# EAGLE library part XF2M-2015-1A (library OMRON_ELECTRONIC_COMPONENTS_By_element14_Batch_1)
FFC/FPC CONNECTOR, RECEPTACLE 20POS 1ROW
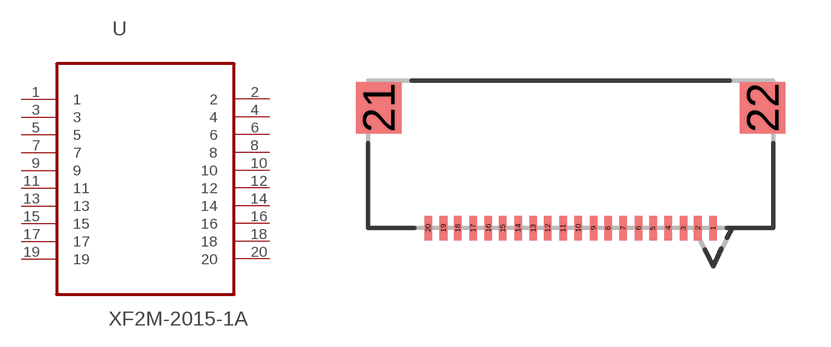
[diagram p4: symbol with the pads of OMRON_XF2M-2015-1A; footprint OMRON_XF2M-2015-1A]

Designator prefix U

## XF2M-2015-1A (MPN: XF2M-2015-1A; OC_FARNELL: 1463014; OC_NEWARK: 87K2157; PACKAGE: FFC/FPC CONNECTOR, RECEPTACLE 20POS 1ROW; SUPPLIER: OMRON ELECTRONIC COMPONENTS)  [OMRON_XF2M-2015-1A]
1  1  pas
2  2  pas
3  3  pas
4  4  pas
5  5  pas
6  6  pas
7  7  pas
8  8  pas
9  9  pas
10  10  pas
11  11  pas
12  12  pas
13  13  pas
14  14  pas
15  15  pas
16  16  pas
17  17  pas
18  18  pas
19  19  pas
20  20  pas

## Footprint OMRON_XF2M-2015-1A (pad centres in mm)
smd 0.254 x 0.813: 1 4.75,2.438; 2 4.242,2.438; 3 3.759,2.438; 4 3.251,2.438; 5 2.743,2.438; 6 2.261,2.438; 7 1.753,2.438; 8 1.245,2.438; 9 0.762,2.438; 10 0.254,2.438; 11 -0.254,2.438; 12 -0.762,2.438; 13 -1.245,2.438; 14 -1.753,2.438; 15 -2.261,2.438; 16 -2.743,2.438; 17 -3.251,2.438; 18 -3.759,2.438; 19 -4.242,2.438; 20 -4.75,2.438
smd 1.524 x 1.702: 21 -6.401,6.452; 22 6.401,6.452